# EAGLE library part STM32F103X (library openmotestm)
STM32F103xC and STM32F103xE performance line LQFP64 pinout
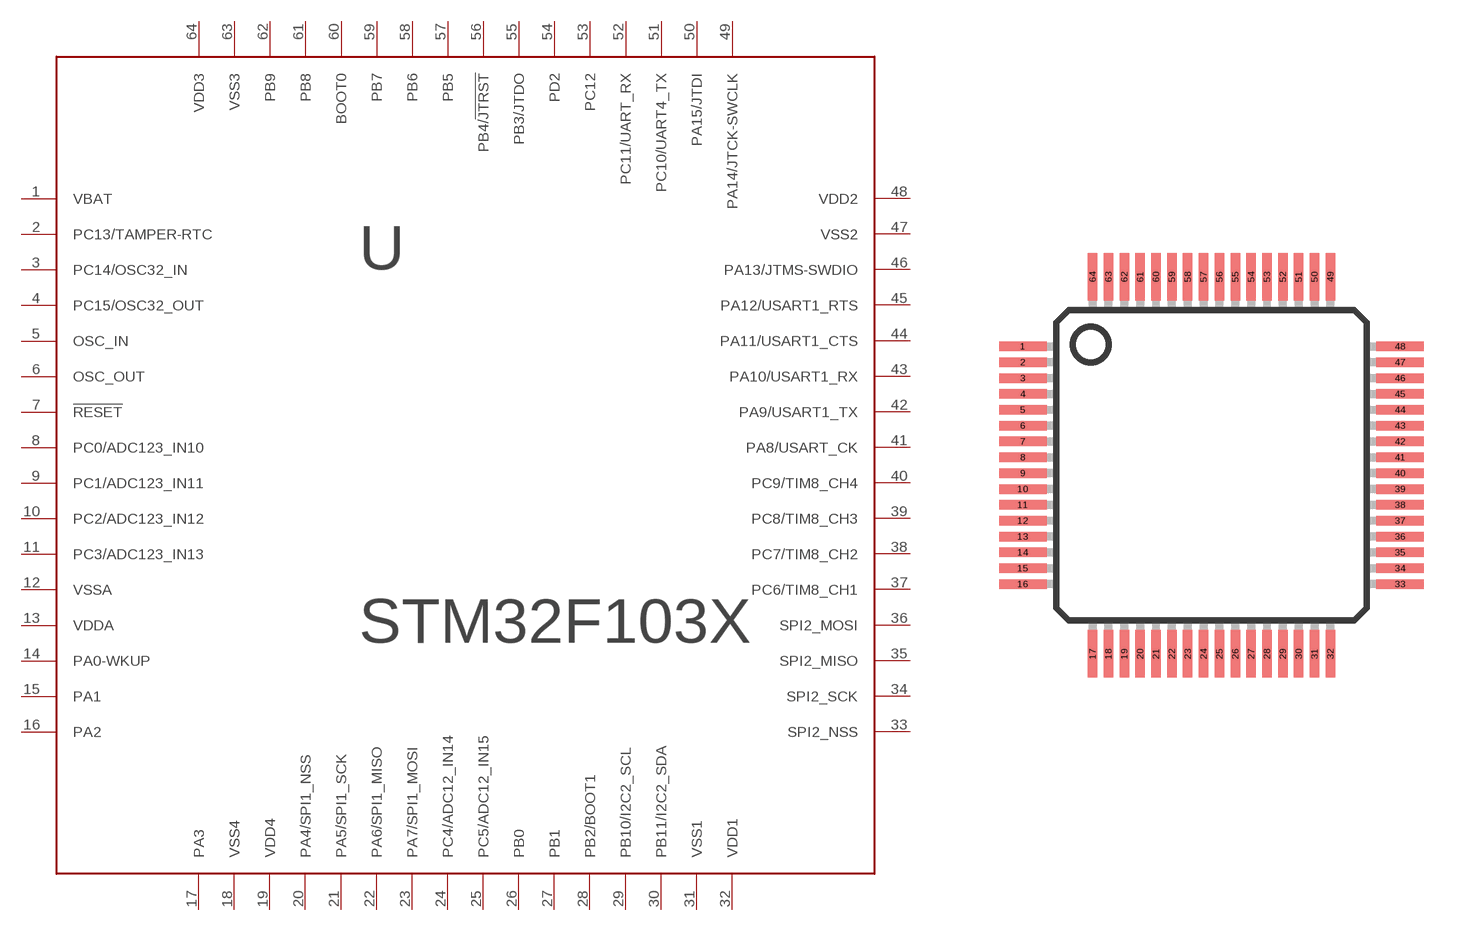
[diagram p0: symbol with the pads of LQFP-ST-64-2; footprint LQFP-ST-64-2]

Designator prefix -

## STM32F103X  [LQFP-ST-64-2]
1  VBAT  pwr
2  PC13/TAMPER-RTC
3  PC14/OSC32_IN
4  PC15/OSC32_OUT
5  OSC_IN
6  OSC_OUT
7  !RESET  out
8  PC0/ADC123_IN10
9  PC1/ADC123_IN11  out
10  PC2/ADC123_IN12
11  PC3/ADC123_IN13
12  VSSA  pwr
13  VDDA  pwr
14  PA0-WKUP
15  PA1
16  PA2
17  PA3
18  VSS4  pwr
19  VDD4  pwr
20  PA4/SPI1_NSS
21  PA5/SPI1_SCK
22  PA6/SPI1_MISO
23  PA7/SPI1_MOSI
24  PC4/ADC12_IN14
25  PC5/ADC12_IN15
26  PB0
27  PB1
28  PB2/BOOT1
29  PB10/I2C2_SCL
30  PB11/I2C2_SDA
31  VSS1  pwr
32  VDD1  pwr
33  SPI2_NSS
34  SPI2_SCK
35  SPI2_MISO
36  SPI2_MOSI
37  PC6/TIM8_CH1
38  PC7/TIM8_CH2
39  PC8/TIM8_CH3
40  PC9/TIM8_CH4  out
41  PA8/USART_CK
42  PA9/USART1_TX
43  PA10/USART1_RX
44  PA11/USART1_CTS
45  PA12/USART1_RTS
46  PA13/JTMS-SWDIO
47  VSS2  pwr
48  VDD2  pwr
49  PA14/JTCK-SWCLK
50  PA15/JTDI
51  PC10/UART4_TX
52  PC11/UART_RX
53  PC12
54  PD2
55  PB3/JTDO
56  PB4/!JTRST
57  PB5
58  PB6
59  PB7
60  BOOT0
61  PB8
62  PB9
63  VSS3  pwr
64  VDD3  pwr

## Footprint LQFP-ST-64-2 (pad centres in mm)
64-Lead Low Profile Quad Flat Package [LQFP] (ST-64-2) COMPLIANT TO JEDEC STANDARDS MS-026-BCD Source: http://www.analog.com/UploadedFiles/Data_Sheets/288945048AD7C7019_20_1_2_4_5_6_7_0.pdf
smd 1.5 x 0.3: 1 -5.95,3.75; 2 -5.95,3.25; 3 -5.95,2.75; 4 -5.95,2.25; 5 -5.95,1.75; 6 -5.95,1.25; 7 -5.95,0.75; 8 -5.95,0.25; 9 -5.95,-0.25; 10 -5.95,-0.75; 11 -5.95,-1.25; 12 -5.95,-1.75; 13 -5.95,-2.25; 14 -5.95,-2.75; 15 -5.95,-3.25; 16 -5.95,-3.75; 33 5.95,-3.75; 34 5.95,-3.25; 35 5.95,-2.75; 36 5.95,-2.25; 37 5.95,-1.75; 38 5.95,-1.25; 39 5.95,-0.75; 40 5.95,-0.25; 41 5.95,0.25; 42 5.95,0.75; 43 5.95,1.25; 44 5.95,1.75; 45 5.95,2.25; 46 5.95,2.75; 47 5.95,3.25; 48 5.95,3.75
smd 0.3 x 1.5: 17 -3.75,-5.95; 18 -3.25,-5.95; 19 -2.75,-5.95; 20 -2.25,-5.95; 21 -1.75,-5.95; 22 -1.25,-5.95; 23 -0.75,-5.95; 24 -0.25,-5.95; 25 0.25,-5.95; 26 0.75,-5.95; 27 1.25,-5.95; 28 1.75,-5.95; 29 2.25,-5.95; 30 2.75,-5.95; 31 3.25,-5.95; 32 3.75,-5.95; 49 3.75,5.95; 50 3.25,5.95; 51 2.75,5.95; 52 2.25,5.95; 53 1.75,5.95; 54 1.25,5.95; 55 0.75,5.95; 56 0.25,5.95; 57 -0.25,5.95; 58 -0.75,5.95; 59 -1.25,5.95; 60 -1.75,5.95; 61 -2.25,5.95; 62 -2.75,5.95; 63 -3.25,5.95; 64 -3.75,5.95